# EAGLE library part KONASHI2.0 (library konashi)
konashiは、スマホ・タブレット端末と連携するフィジカルコンピューティングのためのツールキットです。
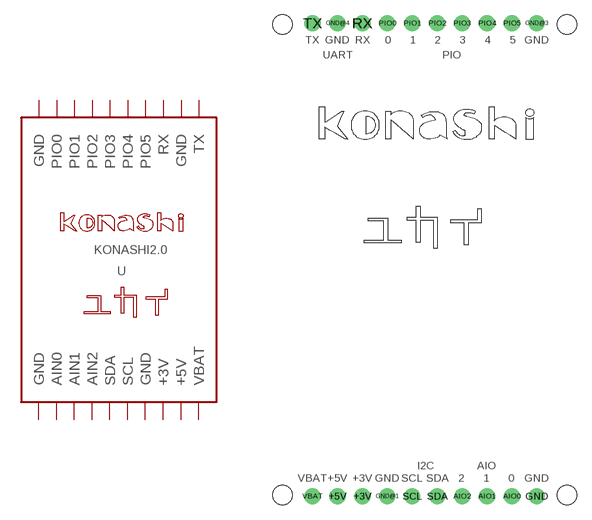
[diagram p4: symbol with the pads of KONASHI2.0; footprint KONASHI2.0]

Designator prefix U

## KONASHI2.0  [KONASHI2.0]
+3V  +3V  pwr
+5V  +5V  pwr
AIO0  AIN0
AIO1  AIN1
AIO2  AIN2
GND  GND  pwr
GND@1  GND  pwr
GND@3  GND  pas
GND@4  GND
PIO0  PIO0
PIO1  PIO1
PIO2  PIO2
PIO3  PIO3
PIO4  PIO4
PIO5  PIO5
RX  RX
SCL  SCL
SDA  SDA
TX  TX
VBAT  VBAT  pwr

## Footprint KONASHI2.0 (pad centres in mm)
konashiは、スマホ・タブレット端末と連携するフィジカルコンピューティングのためのツールキットです。
drill 1.1: +3V -7.62,-22.86; +5V -10.16,-22.86; AIO0 7.62,-22.86; AIO1 5.08,-22.86; AIO2 2.54,-22.86; GND 10.16,-22.86; GND@1 -5.08,-22.86; GND@3 10.16,25.4; GND@4 -10.16,25.4; PIO0 -5.08,25.4; PIO1 -2.54,25.4; PIO2 0,25.4; PIO3 2.54,25.4; PIO4 5.08,25.4; PIO5 7.62,25.4; RX -7.62,25.4; SCL -2.54,-22.86; SDA 0,-22.86; TX -12.7,25.4; VBAT -12.7,-22.86